# Altium schematic symbol library ADA4857-1.SchLib: 1 symbol
Pins are listed as number, name and electrical type; pins without a type are passive.

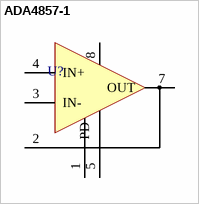
[diagram p0: symbol ADA4857-1]

## ADA4857-1
designator U?  (value not drawn)
pins: 1 PD (power), 2 FB (power), 3 IN-, 4 IN+, 5 -Vs (power), 7 OUT, 8 +Vs (power)